# Altium footprint library WaveFolder.PcbLib: 4 footprints
Each footprint in its own frame and in the unit in brackets; x right, y up, seen from the top. Pads: shape width x height; smd on the part's side, far side on the other; paste and mask are expansions set on the pad; w line width, h text height; cw(c..) or ccw(c..) is an arc to the next point about the centre after c.
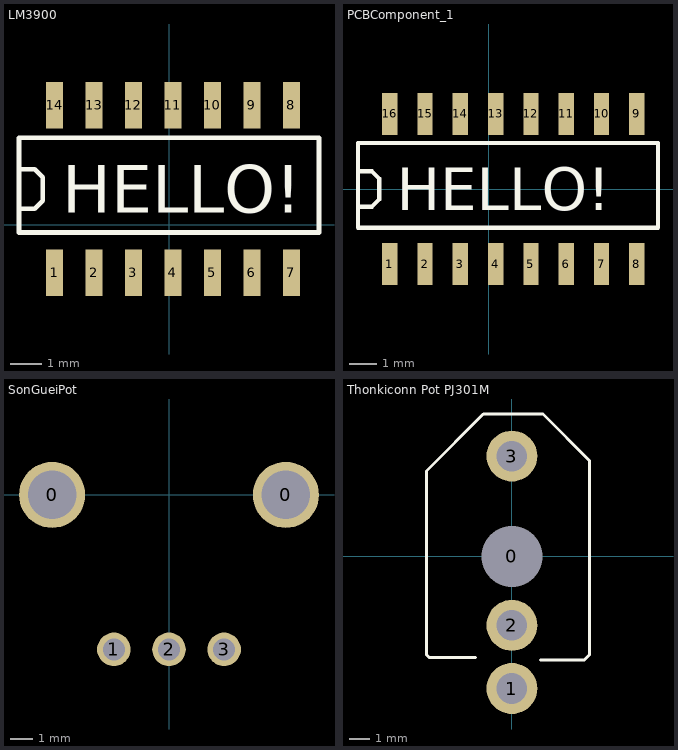
[diagram p0: the footprints below, top view; thin cyan lines are the x and y axes]

## LM3900 [mm] "LM3900 SOIC"
height 0.002
pads (14):
  rect 0.55x1.5 smd: 1(-3.683,-1.557) 2(-2.413,-1.557) 3(-1.143,-1.557) 4(0.127,-1.557) 5(1.397,-1.557) 6(2.667,-1.557) 7(3.937,-1.557) 8(3.937,3.843) 9(2.667,3.843) 10(1.397,3.843) 11(0.127,3.843) 12(-1.143,3.843) 13(-2.413,3.843) 14(-3.683,3.843)
Top Overlay:
  lines w0.152: -4.826,0.508 -4.318,0.508 -4.064,0.762 -4.064,1.524 -4.318,1.778 -4.826,1.778 ; -4.826,-0.254 4.826,-0.254 4.826,2.794 -4.826,2.794 -4.826,-0.254
  text "HELLO!" at -3.429,0.381 h1.52

## PCBComponent_1 [mm]
pads (16):
  rect 0.55x1.5 smd: 1(-3.556,-2.7) 2(-2.286,-2.7) 3(-1.016,-2.7) 4(0.254,-2.7) 5(1.524,-2.7) 6(2.794,-2.7) 7(4.064,-2.7) 8(5.334,-2.7) 9(5.334,2.7) 10(4.064,2.7) 11(2.794,2.7) 12(1.524,2.7) 13(0.254,2.7) 14(-1.016,2.7) 15(-2.286,2.7) 16(-3.556,2.7)
Top Overlay:
  lines w0.152: -4.699,-0.635 -4.191,-0.635 -3.937,-0.381 -3.937,0.381 -4.191,0.635 -4.699,0.635 ; -4.699,-1.397 -4.699,1.651 6.096,1.651 6.096,-1.397 -4.699,-1.397
  text "HELLO!" at -3.302,-0.762 h1.52

## SonGueiPot [mm]
pads (5):
  round 3 hole 2.2: 0(-5.3,0) 0(5.3,0)
  round 1.524 hole 1: 1(-2.5,-7) 2(0,-7) 3(2.5,-7)
3D body "RK09L11-L125.STEP": height 22.5, standoff -3.5, extent -6.048,-7.142 6.05,5.358

## Thonkiconn Pot PJ301M [mm] "PJ301 Thonkicon Jack from Thonk"
height 0.368
pads (4):
  round 1.524 hole 3: 0(0,0)
  round 2.5 hole 1.5: 1(0,-6.48) 2(0,-3.38) 3(0,4.92)
Top Overlay:
  lines w0.152: -1.778,-4.953 -4.064,-4.953 -4.191,-4.826 -4.191,4.191 -1.397,6.985 1.524,6.985 3.81,4.699 3.81,-4.826 3.556,-5.08 1.397,-5.08
3D body: height 9, standoff 0, extent -4.191,-5.08 3.81,6.985